# Altium footprint library Resistor_THT.PcbLib: 104 footprints (part 6 of 7)
Each footprint in its own frame and in the unit in brackets; x right, y up, seen from the top. Pads: shape width x height; smd on the part's side, far side on the other; paste and mask are expansions set on the pad; w line width, h text height; cw(c..) or ccw(c..) is an arc to the next point about the centre after c.
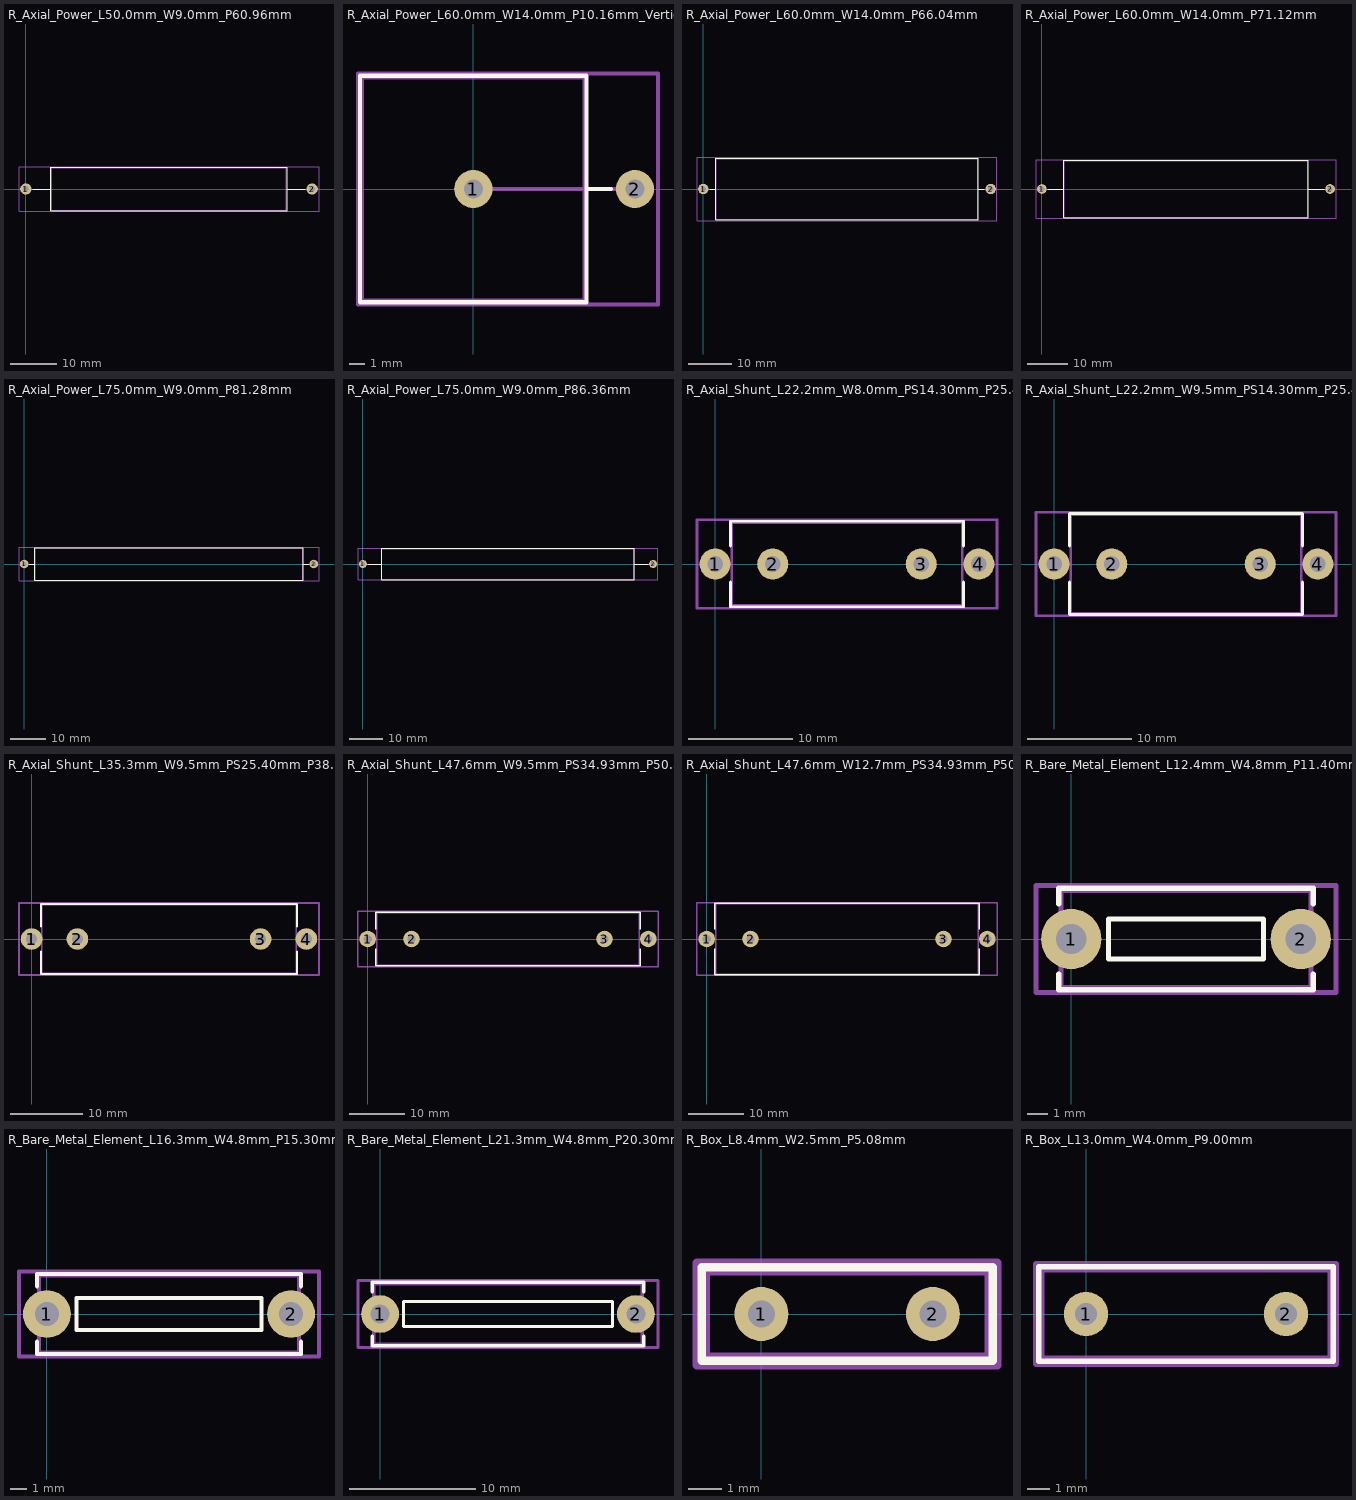
[diagram p5: the footprints below, top view; thin cyan lines are the x and y axes]

## R_Axial_Power_L50.0mm_W9.0mm_P60.96mm [mm]
pads (2):
  round 2.4 hole 1.2: 1(0,0) 2(60.96,0)
F.SilkS:
  lines w0.254: 1.44,0 5.36,0 ; 55.6,0 59.52,0 ; 5.36,-4.62 5.36,4.62 55.6,4.62 55.6,-4.62 5.36,-4.62
F.Fab:
  lines w0.254: 0,0 5.48,0 ; 55.48,0 60.96,0 ; 5.48,-4.5 5.48,4.5 55.48,4.5 55.48,-4.5 5.48,-4.5
  text "'.Designator'" at 26.433,-0.84 h1
F.CrtYd:
  lines w0.254: -1.45,-4.75 -1.45,4.75 62.41,4.75 62.41,-4.75 -1.45,-4.75
3D body "R_Axial_Power_L50.0mm_W9.0mm_P60.96mm.step": height 9, standoff -3, extent -0.397,-4.5 61.357,4.5

## R_Axial_Power_L60.0mm_W14.0mm_P10.16mm_Vertical [mm]
pads (2):
  round 2.4 hole 1.2: 1(0,0) 2(10.16,0)
F.SilkS:
  lines w0.254: 7.12,0 8.66,0 ; -7.12,-7.12 -7.12,7.12 7.12,7.12 7.12,-7.12 -7.12,-7.12
F.Fab:
  lines w0.254: 0,0 10.16,0 ; -7,-7 -7,7 7,7 7,-7 -7,-7
  text "'.Designator'" at -4.047,0.86 h1
F.CrtYd:
  lines w0.254: -7.25,-7.25 -7.25,7.25 11.61,7.25 11.61,-7.25 -7.25,-7.25
3D body "R_Axial_Power_L60.0mm_W14.0mm_P10.16mm_Vertical.step": height 63.6, standoff -3, extent -7,-7 10.557,7

## R_Axial_Power_L60.0mm_W14.0mm_P66.04mm [mm]
pads (2):
  round 2.4 hole 1.2: 1(0,0) 2(66.04,0)
F.SilkS:
  lines w0.254: 1.44,0 2.9,0 ; 63.14,0 64.6,0 ; 2.9,-7.12 2.9,7.12 63.14,7.12 63.14,-7.12 2.9,-7.12
F.Fab:
  lines w0.254: 0,0 3.02,0 ; 63.02,0 66.04,0 ; 3.02,-7 3.02,7 63.02,7 63.02,-7 3.02,-7
  text "'.Designator'" at 28.973,-0.84 h1
F.CrtYd:
  lines w0.254: -1.45,-7.25 -1.45,7.25 67.5,7.25 67.5,-7.25 -1.45,-7.25
3D body "R_Axial_Power_L60.0mm_W14.0mm_P66.04mm.step": height 14, standoff -3, extent -0.397,-7 66.437,7

## R_Axial_Power_L60.0mm_W14.0mm_P71.12mm [mm]
pads (2):
  round 2.4 hole 1.2: 1(0,0) 2(71.12,0)
F.SilkS:
  lines w0.254: 1.44,0 5.44,0 ; 65.68,0 69.68,0 ; 5.44,-7.12 5.44,7.12 65.68,7.12 65.68,-7.12 5.44,-7.12
F.Fab:
  lines w0.254: 0,0 5.56,0 ; 65.56,0 71.12,0 ; 5.56,-7 5.56,7 65.56,7 65.56,-7 5.56,-7
  text "'.Designator'" at 31.513,-0.84 h1
F.CrtYd:
  lines w0.254: -1.45,-7.25 -1.45,7.25 72.58,7.25 72.58,-7.25 -1.45,-7.25
3D body "R_Axial_Power_L60.0mm_W14.0mm_P71.12mm.step": height 14, standoff -3, extent -0.397,-7 71.517,7

## R_Axial_Power_L75.0mm_W9.0mm_P81.28mm [mm]
pads (2):
  round 2.4 hole 1.2: 1(0,0) 2(81.28,0)
F.SilkS:
  lines w0.254: 1.44,0 3.02,0 ; 78.26,0 79.84,0 ; 3.02,-4.62 3.02,4.62 78.26,4.62 78.26,-4.62 3.02,-4.62
F.Fab:
  lines w0.254: 0,0 3.14,0 ; 78.14,0 81.28,0 ; 3.14,-4.5 3.14,4.5 78.14,4.5 78.14,-4.5 3.14,-4.5
  text "'.Designator'" at 36.593,-0.84 h1
F.CrtYd:
  lines w0.254: -1.45,-4.75 -1.45,4.75 82.73,4.75 82.73,-4.75 -1.45,-4.75
3D body "R_Axial_Power_L75.0mm_W9.0mm_P81.28mm.step": height 9, standoff -3, extent -0.397,-4.5 81.677,4.5

## R_Axial_Power_L75.0mm_W9.0mm_P86.36mm [mm]
pads (2):
  round 2.4 hole 1.2: 1(0,0) 2(86.36,0)
F.SilkS:
  lines w0.254: 1.44,0 5.56,0 ; 80.8,0 84.92,0 ; 5.56,-4.62 5.56,4.62 80.8,4.62 80.8,-4.62 5.56,-4.62
F.Fab:
  lines w0.254: 0,0 5.68,0 ; 80.68,0 86.36,0 ; 5.68,-4.5 5.68,4.5 80.68,4.5 80.68,-4.5 5.68,-4.5
  text "'.Designator'" at 39.133,-0.84 h1
F.CrtYd:
  lines w0.254: -1.45,-4.75 -1.45,4.75 87.81,4.75 87.81,-4.75 -1.45,-4.75
3D body "R_Axial_Power_L75.0mm_W9.0mm_P86.36mm.step": height 9, standoff -3, extent -0.397,-4.5 86.757,4.5

## R_Axial_Shunt_L22.2mm_W8.0mm_PS14.30mm_P25.40mm [mm]
pads (4):
  round 3 hole 1.5: 1(0,0) 2(5.55,0) 3(19.85,0) 4(25.4,0)
F.SilkS:
  lines w0.254: 1.48,-1.74 1.48,-4.12 23.92,-4.12 23.92,-1.74 ; 1.48,1.74 1.48,4.12 23.92,4.12 23.92,1.74
F.Fab:
  lines w0.254: 0,0 1.6,0 ; 23.8,0 25.4,0 ; 1.6,-4 1.6,4 23.8,4 23.8,-4 1.6,-4
  text "'.Designator'" at 8.653,-0.84 h1
F.CrtYd:
  lines w0.254: -1.75,-4.25 -1.75,4.25 27.15,4.25 27.15,-4.25 -1.75,-4.25
3D body "R_Axial_Shunt_L22.2mm_W8.0mm_PS14.30mm_P25.40mm.step": height 8, standoff -3, extent -0.453,-4 25.853,4

## R_Axial_Shunt_L22.2mm_W9.5mm_PS14.30mm_P25.40mm [mm]
pads (4):
  round 3 hole 1.5: 1(0,0) 2(5.55,0) 3(19.85,0) 4(25.4,0)
F.SilkS:
  lines w0.254: 1.48,-1.74 1.48,-4.87 23.92,-4.87 23.92,-1.74 ; 1.48,1.74 1.48,4.87 23.92,4.87 23.92,1.74
F.Fab:
  lines w0.254: 0,0 1.6,0 ; 23.8,0 25.4,0 ; 1.6,-4.75 1.6,4.75 23.8,4.75 23.8,-4.75 1.6,-4.75
  text "'.Designator'" at 8.653,-0.84 h1
F.CrtYd:
  lines w0.254: -1.75,-5 -1.75,5 27.15,5 27.15,-5 -1.75,-5
3D body "R_Axial_Shunt_L22.2mm_W9.5mm_PS14.30mm_P25.40mm.step": height 8.73, standoff -3, extent -0.453,-4.75 25.853,4.75

## R_Axial_Shunt_L35.3mm_W9.5mm_PS25.40mm_P38.10mm [mm]
pads (4):
  round 3 hole 1.5: 1(0,0) 2(6.35,0) 3(31.75,0) 4(38.1,0)
F.SilkS:
  lines w0.254: 1.28,-1.74 1.28,-4.87 36.82,-4.87 36.82,-1.74 ; 1.28,1.74 1.28,4.87 36.82,4.87 36.82,1.74
F.Fab:
  lines w0.254: 0,0 1.4,0 ; 36.7,0 38.1,0 ; 1.4,-4.75 1.4,4.75 36.7,4.75 36.7,-4.75 1.4,-4.75
  text "'.Designator'" at 15.003,-0.84 h1
F.CrtYd:
  lines w0.254: -1.75,-5 -1.75,5 39.85,5 39.85,-5 -1.75,-5
3D body "R_Axial_Shunt_L35.3mm_W9.5mm_PS25.40mm_P38.10mm.step": height 8.73, standoff -3, extent -0.453,-4.75 38.553,4.75

## R_Axial_Shunt_L47.6mm_W9.5mm_PS34.93mm_P50.80mm [mm]
pads (4):
  round 3 hole 1.5: 1(0,0) 2(7.935,0) 3(42.865,0) 4(50.8,0)
F.SilkS:
  lines w0.254: 1.48,-1.74 1.48,-4.87 49.32,-4.87 49.32,-1.74 ; 1.48,1.74 1.48,4.87 49.32,4.87 49.32,1.74
F.Fab:
  lines w0.254: 0,0 1.6,0 ; 49.2,0 50.8,0 ; 1.6,-4.75 1.6,4.75 49.2,4.75 49.2,-4.75 1.6,-4.75
  text "'.Designator'" at 21.353,-0.84 h1
F.CrtYd:
  lines w0.254: -1.75,-5 -1.75,5 52.55,5 52.55,-5 -1.75,-5
3D body "R_Axial_Shunt_L47.6mm_W9.5mm_PS34.93mm_P50.80mm.step": height 8.73, standoff -3, extent -0.397,-4.75 51.197,4.75

## R_Axial_Shunt_L47.6mm_W12.7mm_PS34.93mm_P50.80mm [mm]
pads (4):
  round 3 hole 1.5: 1(0,0) 2(7.935,0) 3(42.865,0) 4(50.8,0)
F.SilkS:
  lines w0.254: 1.48,-1.74 1.48,-6.47 49.32,-6.47 49.32,-1.74 ; 1.48,1.74 1.48,6.47 49.32,6.47 49.32,1.74
F.Fab:
  lines w0.254: 0,0 1.6,0 ; 49.2,0 50.8,0 ; 1.6,-6.35 1.6,6.35 49.2,6.35 49.2,-6.35 1.6,-6.35
  text "'.Designator'" at 21.353,-0.84 h1
F.CrtYd:
  lines w0.254: -1.75,-6.6 -1.75,6.6 52.55,6.6 52.55,-6.6 -1.75,-6.6
3D body "R_Axial_Shunt_L47.6mm_W12.7mm_PS34.93mm_P50.80mm.step": height 12.7, standoff -3, extent -0.453,-6.35 51.253,6.35

## R_Bare_Metal_Element_L12.4mm_W4.8mm_P11.40mm [mm]
pads (2):
  round 3 hole 1.5: 1(0,0) 2(11.4,0)
F.SilkS:
  lines w0.254: -0.62,-1.74 -0.62,-2.52 12.02,-2.52 12.02,-1.74 ; -0.62,1.74 -0.62,2.52 12.02,2.52 12.02,1.74 ; 1.86,-1 1.86,1 9.54,1 9.54,-1 1.86,-1
F.Fab:
  lines w0.254: -0.5,-2.4 -0.5,2.4 11.9,2.4 11.9,-2.4 -0.5,-2.4
  text "'.Designator'" at 1.653,-0.84 h1
F.CrtYd:
  lines w0.254: -1.75,-2.65 -1.75,2.65 13.15,2.65 13.15,-2.65 -1.75,-2.65
3D body "R_Bare_Metal_Element_L12.4mm_W4.8mm_P11.40mm.step": height 5.1, standoff -3, extent -1.6,-2.4 13,2.4

## R_Bare_Metal_Element_L16.3mm_W4.8mm_P15.30mm [mm]
pads (2):
  round 3 hole 1.5: 1(0,0) 2(15.3,0)
F.SilkS:
  lines w0.254: -0.62,-1.74 -0.62,-2.52 15.92,-2.52 15.92,-1.74 ; -0.62,1.74 -0.62,2.52 15.92,2.52 15.92,1.74 ; 1.86,-1 1.86,1 13.44,1 13.44,-1 1.86,-1
F.Fab:
  lines w0.254: -0.5,-2.4 -0.5,2.4 15.8,2.4 15.8,-2.4 -0.5,-2.4
  text "'.Designator'" at 3.603,-0.84 h1
F.CrtYd:
  lines w0.254: -1.75,-2.65 -1.75,2.65 17.05,2.65 17.05,-2.65 -1.75,-2.65
3D body "R_Bare_Metal_Element_L16.3mm_W4.8mm_P15.30mm.step": height 25.4, standoff -3, extent -1.6,-2.4 16.9,2.4

## R_Bare_Metal_Element_L21.3mm_W4.8mm_P20.30mm [mm]
pads (2):
  round 3 hole 1.5: 1(0,0) 2(20.3,0)
F.SilkS:
  lines w0.254: -0.62,-1.74 -0.62,-2.52 20.92,-2.52 20.92,-1.74 ; -0.62,1.74 -0.62,2.52 20.92,2.52 20.92,1.74 ; 1.86,-1 1.86,1 18.44,1 18.44,-1 1.86,-1
F.Fab:
  lines w0.254: -0.5,-2.4 -0.5,2.4 20.8,2.4 20.8,-2.4 -0.5,-2.4
  text "'.Designator'" at 6.103,-0.84 h1
F.CrtYd:
  lines w0.254: -1.75,-2.65 -1.75,2.65 22.05,2.65 22.05,-2.65 -1.75,-2.65
3D body "R_Bare_Metal_Element_L21.3mm_W4.8mm_P20.30mm.step": height 25.4, standoff -3, extent -1.6,-2.4 21.9,2.4

## R_Box_L8.4mm_W2.5mm_P5.08mm [mm]
pads (2):
  round 1.6 hole 0.8: 1(0,0) 2(5.08,0)
F.SilkS:
  lines w0.254: -1.77,-1.39 -1.77,1.39 6.85,1.39 6.85,-1.39 -1.77,-1.39
F.Fab:
  lines w0.254: -1.65,-1.27 -1.65,1.27 6.73,1.27 6.73,-1.27 -1.65,-1.27
  text "'.Designator'" at -1.507,-0.84 h1
F.CrtYd:
  lines w0.254: -1.91,-1.52 -1.91,1.52 6.98,1.52 6.98,-1.52 -1.91,-1.52
3D body "R_Box_L8.4mm_W2.5mm_P5.08mm.step": height 6.7, standoff -3, extent -1.66,-1.25 6.74,1.25

## R_Box_L13.0mm_W4.0mm_P9.00mm [mm]
pads (2):
  round 2 hole 1: 1(0,0) 2(9,0)
F.SilkS:
  lines w0.254: -2.12,-2.12 -2.12,2.12 11.12,2.12 11.12,-2.12 -2.12,-2.12
F.Fab:
  lines w0.254: -2,-2 -2,2 11,2 11,-2 -2,-2
  text "'.Designator'" at 0.453,-0.84 h1
F.CrtYd:
  lines w0.254: -2.25,-2.25 -2.25,2.25 11.25,2.25 11.25,-2.25 -2.25,-2.25
3D body "R_Box_L13.0mm_W4.0mm_P9.00mm.step": height 8, standoff -3, extent -2,-2 11,2